# Altium schematic symbol library IC芯片.SchLib: 22 symbols
Pins are listed as number, name and electrical type; pins without a type are passive.

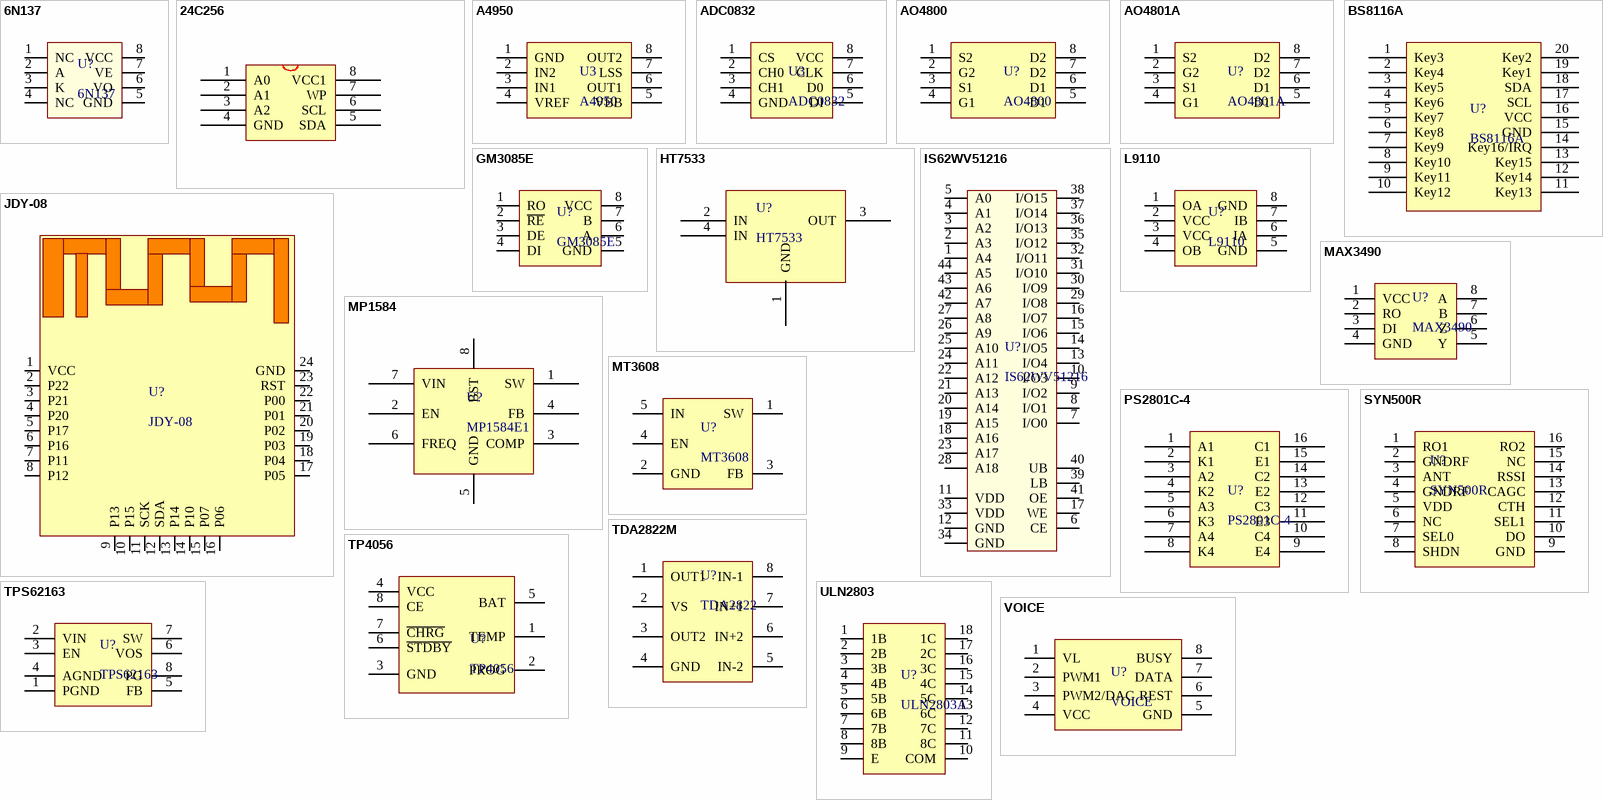
[diagram p0: symbols 6N137 to VOICE]

## 6N137
designator U?
光耦
pins: 1 NC, 2 A, 3 K, 4 NC, 5 GND, 6 VO, 7 VE, 8 VCC

## 24C256
designator U?, comment AT24C256
EEPROM
footprint SOP-8 (SOP)
pins: 1 A0, 2 A1, 3 A2, 4 GND, 5 SDA, 6 SCL, 7 WP, 8 VCC1

## A4950
designator U3
电机驱动 40V 3.5A
pins: 1 GND, 2 IN2, 3 IN1, 4 VREF, 5 VBB, 6 OUT1, 7 LSS, 8 OUT2

## ADC0832
designator U3
ADC
pins: 1 CS, 2 CH0, 3 CH1, 4 GND, 5 DI, 6 D0, 7 CLK, 8 VCC

## AO4800
designator U?
N沟道 6.9A 30V
footprint SOP8
pins: 1 S2, 2 G2, 3 S1, 4 G1, 5 D1, 6 D1, 7 D2, 8 D2

## AO4801A
designator U?
P沟道 -5A -30V
footprint SOP8
pins: 1 S2, 2 G2, 3 S1, 4 G1, 5 D1, 6 D1, 7 D2, 8 D2

## BS8116A
designator U?
触摸芯片; PackageReference: TSSOP20; Value: BS8116A
footprint TSSOP20 (Shrink Small Outline; 20 Leads; Body Width 4.4 mm; Pitch 0.65 mm)
pins: 1 Key3, 2 Key4, 3 Key5, 4 Key6, 5 Key7, 6 Key8, 7 Key9, 8 Key10, 9 Key11, 10 Key12, 11 Key13, 12 Key14, 13 Key15, 14 Key16/IRQ, 15 GND, 16 VCC, 17 SCL, 18 SDA, 19 Key1, 20 Key2

## GM3085E
designator U?
pins: 1 RO, 2 ~{RE}, 3 DE, 4 DI, 5 GND, 6 A, 7 B, 8 VCC

## HT7533
designator U?
电源芯片
footprint SOT-89
pins: 1 GND, 2 IN, 3 OUT, 4 IN

## IS62WV51216
designator U?
SRAM; PackageReference: TSOP44; Value: IS62WV51216
footprint TSOP44 (Footprint not found)
pins: 1 A4, 2 A3, 3 A2, 4 A1, 5 A0, 6 CE, 7 I/O0, 8 I/O1, 9 I/O2, 10 I/O3, 11 VDD, 12 GND, 13 I/O4, 14 I/O5, 15 I/O6, 16 I/O7, 17 WE, 18 A16, 19 A15, 20 A14, 21 A13, 22 A12, 23 A17, 24 A11, 25 A10, 26 A9, 27 A8, 28 A18, 29 I/O8, 30 I/O9, 31 I/O10, 32 I/O11, 33 VDD, 34 GND, 35 I/O12, 36 I/O13, 37 I/O14, 38 I/O15, 39 LB, 40 UB, 41 OE, 42 A7, 43 A6, 44 A5

## JDY-08
designator U?
蓝牙模块
footprint JDY-08
pins: 1 VCC, 2 P22, 3 P21, 4 P20, 5 P17, 6 P16, 7 P11, 8 P12, 9 P13, 10 P15, 11 SCK, 12 SDA, 13 P14, 14 P10, 15 P07, 16 P06, 17 P05, 18 P04, 19 P03, 20 P02, 21 P01, 22 P00, 23 RST, 24 GND

## L9110
designator U?
驱动芯片; PackageReference: SOP8; Value: L9110
footprint SOP8
pins: 1 OA, 2 VCC, 3 VCC, 4 OB, 5 GND, 6 IA, 7 IB, 8 GND

## MAX3490
designator U?
422芯片; Value: MAX3490; PackageReference: SOP8
footprint SOP8
pins: 1 VCC, 2 RO, 3 DI, 4 GND, 5 Y, 6 Z, 7 B, 8 A

## MP1584
designator U?, comment MP1584E1
电源芯片; Value: MP1584E1; PackageReference: SOP8
footprint SOP8_0
pins: 1 SW, 2 EN, 3 COMP, 4 FB, 5 GND, 6 FREQ, 7 VIN, 8 BST

## MT3608
designator U?
电源芯片; PackageReference: SOT23-6; Value: MT3608
footprint SOT23-6
pins: 1 SW, 2 GND, 3 FB, 4 EN, 5 IN

## PS2801C-4
designator U?
4路光耦
pins: 1 A1, 2 K1, 3 A2, 4 K2, 5 A3, 6 K3, 7 A4, 8 K4, 9 E4, 10 C4, 11 E3, 12 C3, 13 E2, 14 C2, 15 E1, 16 C1

## SYN500R
designator U?
无线收发芯片
footprint TSSOP16 (TSOP, 16-Leads, Body 5x4.4mm, Pitch 0.65mm, IPC Low Density)
pins: 1 RO1, 2 GNDRF, 3 ANT, 4 GNDRF, 5 VDD, 6 NC, 7 SEL0, 8 SHDN, 9 GND, 10 DO, 11 SEL1, 12 CTH, 13 CAGC, 14 RSSI, 15 NC, 16 RO2

## TDA2822M
designator U?, comment TDA2822
功放芯片
footprint DIP8
pins: 1 OUT1, 2 VS, 3 OUT2, 4 GND, 5 IN-2, 6 IN+2, 7 IN+1, 8 IN-1

## TP4056
designator U?
充电芯片; PackageReference: SOP8; Value: TP4056
footprint SOP8
pins: 1 TEMP, 2 PROG, 3 GND, 4 VCC, 5 BAT, 6 ~{STDBY}, 7 ~{CHRG}, 8 CE

## TPS62163
designator U?
DC-DC
pins: 1 PGND, 2 VIN, 3 EN, 4 AGND, 5 FB, 6 VOS, 7 SW, 8 PG

## ULN2803
designator U?, comment ULN2803A
pins: 1 1B, 2 2B, 3 3B, 4 4B, 5 5B, 6 6B, 7 7B, 8 8B, 9 E, 10 COM, 11 8C, 12 7C, 13 6C, 14 5C, 15 4C, 16 3C, 17 2C, 18 1C

## VOICE
designator U?
语音芯片; PackageReference: SOP8
footprint SOP8
pins: 1 VL, 2 PWM1, 3 PWM2/DAC, 4 VCC, 5 GND, 6 REST, 7 DATA, 8 BUSY